# Altium integrated library TSW-101-07-G-T-LL.IntLib: 1 symbol
Pins are listed as number, name and electrical type; pins without a type are passive.

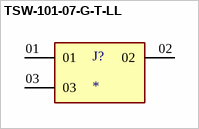
[diagram p0: symbol TSW-101-07-G-T-LL]

## TSW-101-07-G-T-LL
designator J?
MP: TSW-101-07-G-T-LL; Package: None; Price: None; Value: *; Availability: Unavailable
footprint SAMTEC_TSW-101-07-G-T-LL
pins: 01, 02, 03